# Altium schematic symbol library PCA9527.Schlib: 1 symbol
Pins are listed as number, name and electrical type; pins without a type are passive.

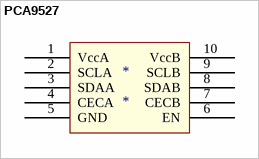
[diagram p0: symbol PCA9527]

## PCA9527
designator *
pins: 1 VccA, 2 SCLA, 3 SDAA, 4 CECA, 5 GND, 6 EN, 7 CECB, 8 SDAB, 9 SCLB, 10 VccB